# EAGLE library part PICKIT-ICSP (library MIDI router parts)
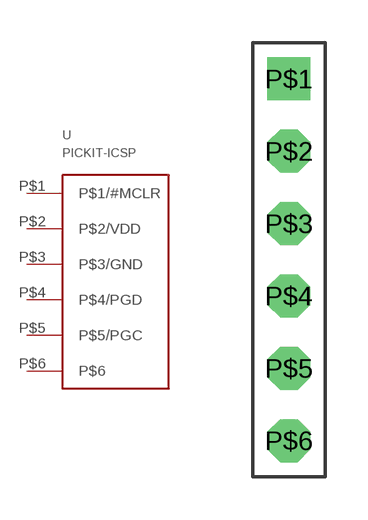
[diagram p6: symbol with the pads of PICKIT-ICSP; footprint PICKIT-ICSP]

Designator prefix -

## PICKIT-ICSP  [PICKIT-ICSP]
P$1  P$1/#MCLR
P$2  P$2/VDD
P$3  P$3/GND
P$4  P$4/PGD
P$5  P$5/PGC
P$6  P$6

## Footprint PICKIT-ICSP (pad centres in mm)
drill 1 square: P$1 0,0
drill 1 octagon: P$2 0,-2.54; P$3 0,-5.08; P$4 0,-7.62; P$5 0,-10.16; P$6 0,-12.7